# Altium integrated library Altium_Resistor.IntLib: 504 symbols (part 5 of 10)
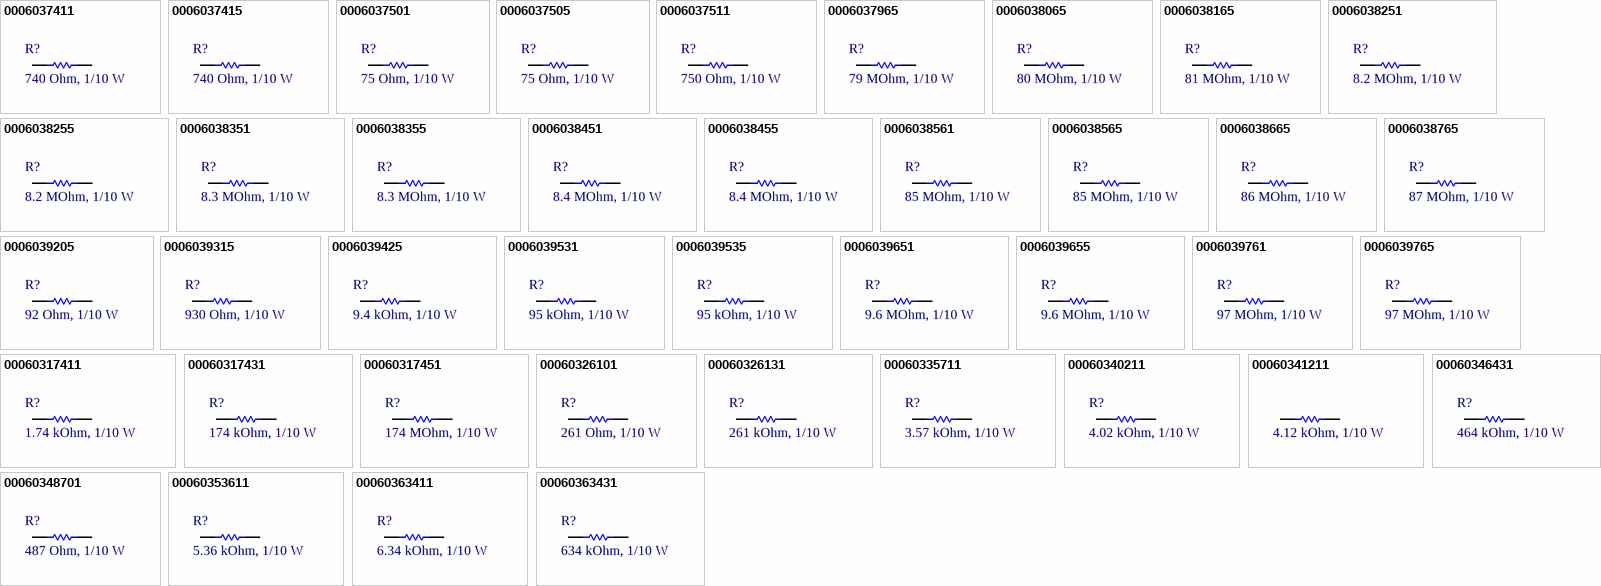
[diagram p19: symbols 0006037411 to 00060363431]

## 0006038165
designator R?, comment 81 MOhm, 1/10 W
RES, size 0603, 81 MOhm, 1/10 W, 5%; Manufacturer: OEM; Rated Power: 1/10 W; Resistance: 81 MOhm; Tolerance: +/-5%; Supplier 1 URL: N/A; Supplier 3 URL: N/A; Value: 81 MOhm, 1/10 W; Supplier 2 URL: N/A; Packaging: Tape and Reel; Supplier 1: Mouser; Supplier 1 Part Number: N/A; Supplier 2: Digi-Key; Supplier 2 Part Number: N/A; Supplier 3: thegioiic; Supplier 3 Part Number: N/A; Manufacturer Part Number: OEM; ComponentLink1Description: Datasheet; ComponentLink1URL: N/A; Mount: SMD/SMT; Operating Temperature Max: + 85 C; Operating Temperature Min: - 40 C; Package / Case: 0603; LCSC Part #: N/A
footprint RES_0603 (Chip Resistor, 2-Leads, Body 1.55x0.85mm, IPC Medium Density)
pins: 1, 2

## 0006038251
designator R?, comment 8.2 MOhm, 1/10 W
RES, size 0603, 8.2  MOhm, 1/10 W, 1%; Manufacturer: OEM; Rated Power: 1/10 W; Tolerance: +/-1%; Resistance: 8.2  MOhm; Supplier 1 URL: https://www.mouser.vn/ProductDetail/KOA-Speer/HV731JTTD8204F?qs=ZqVPfSd1khqN0teaqWW7DA%3D%3D; Supplier 3 URL: N/A; Value: 8.2 MOhm, 1/10 W; Supplier 2 URL: https://www.digikey.com/en/products/detail/yageo/RC0603FR-078M2L/5918418; Packaging: Tape and Reel; Supplier 1: Mouser; Supplier 1 Part Number: 660-HV731JTTD8204F; Supplier 2: Digi-Key; Supplier 2 Part Number: 13-RC0603FR-078M2LTR-ND; Supplier 3: thegioiic; Supplier 3 Part Number: N/A; Manufacturer Part Number: OEM; ComponentLink1Description: Datasheet; ComponentLink1URL: N/A; Mount: SMD/SMT; Operating Temperature Max: + 85 C; Operating Temperature Min: - 40 C; Package / Case: 0603; LCSC Part #: N/A
footprint RES_0603 (Chip Resistor, 2-Leads, Body 1.55x0.85mm, IPC Medium Density)
pins: 1, 2

## 0006038255
designator R?, comment 8.2 MOhm, 1/10 W
RES, size 0603, 8.2 MOhm, 1/10 W, 5%; Manufacturer: ROHM Semiconductor; Manufacturer Part Number: ESR03EZPJ825; Rated Power: 1/10 W; Tolerance: +/-5%; Resistance: 8.2 MOhm; Supplier 1 URL: https://www.mouser.vn/ProductDetail/ROHM-Semiconductor/ESR03EZPJ825?qs=493kPxzlxfIkNxBzvs2Ymg%3D%3D; Supplier 3 URL: N/A; Value: 8.2 MOhm, 1/10 W; Supplier 2 URL: https://www.digikey.com/en/products/detail/rohm-semiconductor/ESR03EZPJ825/4051298?s=N4IgTCBcDaIOwFYEFoCiBlASgBgMyoC0AFAKQA4wEQBdAXyA; Packaging: Tape and Reel; Supplier 1: Mouser; Supplier 1 Part Number: 755-ESR03EZPJ825; Supplier 2: Digi-Key; Supplier 2 Part Number: RHM8.2MDTR-ND - Tape & Reel (TR); Supplier 3: thegioiic; Supplier 3 Part Number: N/A; ComponentLink1Description: Datasheet; ComponentLink1URL: https://www.mouser.vn/datasheet/2/348/ROHM_S_A0011075102_1-2563252.pdf; Mount: SMD/SMT; Operating Temperature Max: + 85 C; Operating Temperature Min: - 40 C; Package / Case: 0603; LCSC Part #: N/A
footprint RES_0603 (Chip Resistor, 2-Leads, Body 1.55x0.85mm, IPC Medium Density)
pins: 1, 2

## 0006038351
designator R?, comment 8.3 MOhm, 1/10 W
RES, size 0603, 8.3  MOhm, 1/10 W, 1%; Manufacturer: OEM; Rated Power: 1/10 W; Tolerance: +/-1%; Resistance: 8.3  MOhm; Supplier 1 URL: N/A; Supplier 3 URL: N/A; Value: 8.3 MOhm, 1/10 W; Supplier 2 URL: N/A; Packaging: Tape and Reel; Supplier 1: Mouser; Supplier 1 Part Number: N/A; Supplier 2: Digi-Key; Supplier 2 Part Number: N/A; Supplier 3: thegioiic; Supplier 3 Part Number: N/A; Manufacturer Part Number: OEM; ComponentLink1Description: Datasheet; ComponentLink1URL: N/A; Mount: SMD/SMT; Operating Temperature Max: + 85 C; Operating Temperature Min: - 40 C; Package / Case: 0603; LCSC Part #: N/A
footprint RES_0603 (Chip Resistor, 2-Leads, Body 1.55x0.85mm, IPC Medium Density)
pins: 1, 2

## 0006038355
designator R?, comment 8.3 MOhm, 1/10 W
RES, size 0603, 8.3 MOhm, 1/10 W, 5%; Manufacturer: OEM; Rated Power: 1/10 W; Tolerance: +/-5%; Resistance: 8.3 MOhm; Supplier 1 URL: N/A; Supplier 3 URL: N/A; Value: 8.3 MOhm, 1/10 W; Supplier 2 URL: N/A; Packaging: Tape and Reel; Supplier 1: Mouser; Supplier 1 Part Number: N/A; Supplier 2: Digi-Key; Supplier 2 Part Number: N/A; Supplier 3: thegioiic; Supplier 3 Part Number: N/A; Manufacturer Part Number: OEM; ComponentLink1Description: Datasheet; ComponentLink1URL: N/A; Mount: SMD/SMT; Operating Temperature Max: + 85 C; Operating Temperature Min: - 40 C; Package / Case: 0603; LCSC Part #: N/A
footprint RES_0603 (Chip Resistor, 2-Leads, Body 1.55x0.85mm, IPC Medium Density)
pins: 1, 2

## 0006038451
designator R?, comment 8.4 MOhm, 1/10 W
RES, size 0603, 8.4  MOhm, 1/10 W, 1%; Manufacturer: OEM; Rated Power: 1/10 W; Tolerance: +/-1%; Resistance: 8.4  MOhm; Supplier 1 URL: N/A; Supplier 3 URL: N/A; Value: 8.4 MOhm, 1/10 W; Supplier 2 URL: N/A; Packaging: Tape and Reel; Supplier 1: Mouser; Supplier 1 Part Number: N/A; Supplier 2: Digi-Key; Supplier 2 Part Number: N/A; Supplier 3: thegioiic; Supplier 3 Part Number: N/A; Manufacturer Part Number: OEM; ComponentLink1Description: Datasheet; ComponentLink1URL: N/A; Mount: SMD/SMT; Operating Temperature Max: + 85 C; Operating Temperature Min: - 40 C; Package / Case: 0603; LCSC Part #: N/A
footprint RES_0603 (Chip Resistor, 2-Leads, Body 1.55x0.85mm, IPC Medium Density)
pins: 1, 2

## 0006038455
designator R?, comment 8.4 MOhm, 1/10 W
RES, size 0603, 8.4 MOhm, 1/10 W, 5%; Manufacturer: OEM; Rated Power: 1/10 W; Tolerance: +/-5%; Resistance: 8.4 MOhm; Supplier 1 URL: N/A; Supplier 3 URL: N/A; Value: 8.4 MOhm, 1/10 W; Supplier 2 URL: N/A; Packaging: Tape and Reel; Supplier 1: Mouser; Supplier 1 Part Number: N/A; Supplier 2: Digi-Key; Supplier 2 Part Number: N/A; Supplier 3: thegioiic; Supplier 3 Part Number: N/A; Manufacturer Part Number: OEM; ComponentLink1Description: Datasheet; ComponentLink1URL: N/A; Mount: SMD/SMT; Operating Temperature Max: + 85 C; Operating Temperature Min: - 40 C; Package / Case: 0603; LCSC Part #: N/A
footprint RES_0603 (Chip Resistor, 2-Leads, Body 1.55x0.85mm, IPC Medium Density)
pins: 1, 2

## 0006038561
designator R?, comment 85 MOhm, 1/10 W
RES, size 0603, 85  MOhm, 1/10 W, 1%; Manufacturer: OEM; Rated Power: 1/10 W; Resistance: 85  MOhm; Tolerance: +/-1%; Supplier 1 URL: N/A; Supplier 3 URL: N/A; Value: 85 MOhm, 1/10 W; Supplier 2 URL: N/A; Packaging: Tape and Reel; Supplier 1: Mouser; Supplier 1 Part Number: N/A; Supplier 2: Digi-Key; Supplier 2 Part Number: N/A; Supplier 3: thegioiic; Supplier 3 Part Number: N/A; Manufacturer Part Number: OEM; ComponentLink1Description: Datasheet; ComponentLink1URL: N/A; Mount: SMD/SMT; Operating Temperature Max: + 85 C; Operating Temperature Min: - 40 C; Package / Case: 0603; LCSC Part #: N/A
footprint RES_0603 (Chip Resistor, 2-Leads, Body 1.55x0.85mm, IPC Medium Density)
pins: 1, 2

## 0006038565
designator R?, comment 85 MOhm, 1/10 W
RES, size 0603, 85 MOhm, 1/10 W, 5%; Manufacturer: OEM; Rated Power: 1/10 W; Resistance: 85 MOhm; Tolerance: +/-5%; Supplier 1 URL: N/A; Supplier 3 URL: N/A; Value: 85 MOhm, 1/10 W; Supplier 2 URL: N/A; Packaging: Tape and Reel; Supplier 1: Mouser; Supplier 1 Part Number: N/A; Supplier 2: Digi-Key; Supplier 2 Part Number: N/A; Supplier 3: thegioiic; Supplier 3 Part Number: N/A; Manufacturer Part Number: OEM; ComponentLink1Description: Datasheet; ComponentLink1URL: N/A; Mount: SMD/SMT; Operating Temperature Max: + 85 C; Operating Temperature Min: - 40 C; Package / Case: 0603; LCSC Part #: N/A
footprint RES_0603 (Chip Resistor, 2-Leads, Body 1.55x0.85mm, IPC Medium Density)
pins: 1, 2

## 0006038665
designator R?, comment 86 MOhm, 1/10 W
RES, size 0603, 86 MOhm, 1/10 W, 5%; Manufacturer: OEM; Rated Power: 1/10 W; Resistance: 86 MOhm; Tolerance: +/-5%; Supplier 1 URL: N/A; Supplier 3 URL: N/A; Value: 86 MOhm, 1/10 W; Supplier 2 URL: N/A; Packaging: Tape and Reel; Supplier 1: Mouser; Supplier 1 Part Number: N/A; Supplier 2: Digi-Key; Supplier 2 Part Number: N/A; Supplier 3: thegioiic; Supplier 3 Part Number: N/A; Manufacturer Part Number: OEM; ComponentLink1Description: Datasheet; ComponentLink1URL: N/A; Mount: SMD/SMT; Operating Temperature Max: + 85 C; Operating Temperature Min: - 40 C; Package / Case: 0603; LCSC Part #: N/A
footprint RES_0603 (Chip Resistor, 2-Leads, Body 1.55x0.85mm, IPC Medium Density)
pins: 1, 2

## 0006038765
designator R?, comment 87 MOhm, 1/10 W
RES, size 0603, 87 MOhm, 1/10 W, 5%; Manufacturer: OEM; Rated Power: 1/10 W; Resistance: 87 MOhm; Tolerance: +/-5%; Supplier 1 URL: N/A; Supplier 3 URL: N/A; Value: 87 MOhm, 1/10 W; Supplier 2 URL: N/A; Packaging: Tape and Reel; Supplier 1: Mouser; Supplier 1 Part Number: N/A; Supplier 2: Digi-Key; Supplier 2 Part Number: N/A; Supplier 3: thegioiic; Supplier 3 Part Number: N/A; Manufacturer Part Number: OEM; ComponentLink1Description: Datasheet; ComponentLink1URL: N/A; Mount: SMD/SMT; Operating Temperature Max: + 85 C; Operating Temperature Min: - 40 C; Package / Case: 0603; LCSC Part #: N/A
footprint RES_0603 (Chip Resistor, 2-Leads, Body 1.55x0.85mm, IPC Medium Density)
pins: 1, 2

## 0006039205
designator R?, comment 92 Ohm, 1/10 W
RES, size 0603, 92 Ohm, 1/10 W, 5%; Manufacturer: OEM; Rated Power: 1/10 W; Resistance: 92 Ohm; Tolerance: +/-5%; Supplier 1 URL: N/A; Supplier 3 URL: N/A; Value: 92 Ohm, 1/10 W; Supplier 2 URL: N/A; Packaging: Tape and Reel; Supplier 1: Mouser; Supplier 1 Part Number: N/A; Supplier 2: Digi-Key; Supplier 2 Part Number: N/A; Supplier 3: thegioiic; Supplier 3 Part Number: N/A; Manufacturer Part Number: OEM; ComponentLink1Description: Datasheet; ComponentLink1URL: N/A; Mount: SMD/SMT; Operating Temperature Max: + 85 C; Operating Temperature Min: - 40 C; Package / Case: 0603; LCSC Part #: N/A
footprint RES_0603 (Chip Resistor, 2-Leads, Body 1.55x0.85mm, IPC Medium Density)
pins: 1, 2

## 0006039315
designator R?, comment 930 Ohm, 1/10 W
RES, size 0603, 930 Ohm, 1/10 W, 5%; Manufacturer: OEM; Rated Power: 1/10 W; Resistance: 930 Ohm; Tolerance: +/-5%; Supplier 1 URL: N/A; Supplier 3 URL: N/A; Value: 930 Ohm, 1/10 W; Supplier 2 URL: N/A; Packaging: Tape and Reel; Supplier 1: Mouser; Supplier 1 Part Number: N/A; Supplier 2: Digi-Key; Supplier 2 Part Number: N/A; Supplier 3: thegioiic; Supplier 3 Part Number: N/A; Manufacturer Part Number: OEM; ComponentLink1Description: Datasheet; ComponentLink1URL: N/A; Mount: SMD/SMT; Operating Temperature Max: + 85 C; Operating Temperature Min: - 40 C; Package / Case: 0603; LCSC Part #: N/A
footprint RES_0603 (Chip Resistor, 2-Leads, Body 1.55x0.85mm, IPC Medium Density)
pins: 1, 2

## 0006039425
designator R?, comment 9.4 kOhm, 1/10 W
RES, size 0603, 9.4 kOhm, 1/10 W, 5%; Manufacturer: OEM; Rated Power: 1/10 W; Tolerance: +/-5%; Resistance: 9.4 kOhm; Supplier 1 URL: N/A; Supplier 3 URL: N/A; Value: 9.4 kOhm, 1/10 W; Supplier 2 URL: N/A; Packaging: Tape and Reel; Supplier 1: Mouser; Supplier 1 Part Number: N/A; Supplier 2: Digi-Key; Supplier 2 Part Number: N/A; Supplier 3: thegioiic; Supplier 3 Part Number: N/A; Manufacturer Part Number: OEM; ComponentLink1Description: Datasheet; ComponentLink1URL: N/A; Mount: SMD/SMT; Operating Temperature Max: + 85 C; Operating Temperature Min: - 40 C; Package / Case: 0603; LCSC Part #: N/A
footprint RES_0603 (Chip Resistor, 2-Leads, Body 1.55x0.85mm, IPC Medium Density)
pins: 1, 2

## 0006039531
designator R?, comment 95 kOhm, 1/10 W
RES, size 0603, 95  kOhm, 1/10 W, 1%; Manufacturer: OEM; Rated Power: 1/10 W; Resistance: 95  kOhm; Tolerance: +/-1%; Supplier 1 URL: N/A; Supplier 3 URL: N/A; Value: 95 kOhm, 1/10 W; Supplier 2 URL: N/A; Packaging: Tape and Reel; Supplier 1: Mouser; Supplier 1 Part Number: N/A; Supplier 2: Digi-Key; Supplier 2 Part Number: N/A; Supplier 3: thegioiic; Supplier 3 Part Number: N/A; Manufacturer Part Number: OEM; ComponentLink1Description: Datasheet; ComponentLink1URL: N/A; Mount: SMD/SMT; Operating Temperature Max: + 85 C; Operating Temperature Min: - 40 C; Package / Case: 0603; LCSC Part #: N/A
footprint RES_0603 (Chip Resistor, 2-Leads, Body 1.55x0.85mm, IPC Medium Density)
pins: 1, 2

## 0006039535
designator R?, comment 95 kOhm, 1/10 W
RES, size 0603, 95 kOhm, 1/10 W, 5%; Manufacturer: OEM; Rated Power: 1/10 W; Resistance: 95 kOhm; Tolerance: +/-5%; Supplier 1 URL: N/A; Supplier 3 URL: N/A; Value: 95 kOhm, 1/10 W; Supplier 2 URL: N/A; Packaging: Tape and Reel; Supplier 1: Mouser; Supplier 1 Part Number: N/A; Supplier 2: Digi-Key; Supplier 2 Part Number: N/A; Supplier 3: thegioiic; Supplier 3 Part Number: N/A; Manufacturer Part Number: OEM; ComponentLink1Description: Datasheet; ComponentLink1URL: N/A; Mount: SMD/SMT; Operating Temperature Max: + 85 C; Operating Temperature Min: - 40 C; Package / Case: 0603; LCSC Part #: N/A
footprint RES_0603 (Chip Resistor, 2-Leads, Body 1.55x0.85mm, IPC Medium Density)
pins: 1, 2

## 0006039651
designator R?, comment 9.6 MOhm, 1/10 W
RES, size 0603, 9.6  MOhm, 1/10 W, 1%; Manufacturer: OEM; Rated Power: 1/10 W; Tolerance: +/-1%; Resistance: 9.6  MOhm; Supplier 1 URL: N/A; Supplier 3 URL: N/A; Value: 9.6 MOhm, 1/10 W; Supplier 2 URL: N/A; Packaging: Tape and Reel; Supplier 1: Mouser; Supplier 1 Part Number: N/A; Supplier 2: Digi-Key; Supplier 2 Part Number: N/A; Supplier 3: thegioiic; Supplier 3 Part Number: N/A; Manufacturer Part Number: OEM; ComponentLink1Description: Datasheet; ComponentLink1URL: N/A; Mount: SMD/SMT; Operating Temperature Max: + 85 C; Operating Temperature Min: - 40 C; Package / Case: 0603; LCSC Part #: N/A
footprint RES_0603 (Chip Resistor, 2-Leads, Body 1.55x0.85mm, IPC Medium Density)
pins: 1, 2

## 0006039655
designator R?, comment 9.6 MOhm, 1/10 W
RES, size 0603, 9.6 MOhm, 1/10 W, 5%; Manufacturer: OEM; Rated Power: 1/10 W; Tolerance: +/-5%; Resistance: 9.6 MOhm; Supplier 1 URL: N/A; Supplier 3 URL: N/A; Value: 9.6 MOhm, 1/10 W; Supplier 2 URL: N/A; Packaging: Tape and Reel; Supplier 1: Mouser; Supplier 1 Part Number: N/A; Supplier 2: Digi-Key; Supplier 2 Part Number: N/A; Supplier 3: thegioiic; Supplier 3 Part Number: N/A; Manufacturer Part Number: OEM; ComponentLink1Description: Datasheet; ComponentLink1URL: N/A; Mount: SMD/SMT; Operating Temperature Max: + 85 C; Operating Temperature Min: - 40 C; Package / Case: 0603; LCSC Part #: N/A
footprint RES_0603 (Chip Resistor, 2-Leads, Body 1.55x0.85mm, IPC Medium Density)
pins: 1, 2

## 0006039761
designator R?, comment 97 MOhm, 1/10 W
RES, size 0603, 97  MOhm, 1/10 W, 1%; Manufacturer: OEM; Rated Power: 1/10 W; Resistance: 97  MOhm; Tolerance: +/-1%; Supplier 1 URL: N/A; Supplier 3 URL: N/A; Value: 97 MOhm, 1/10 W; Supplier 2 URL: N/A; Packaging: Tape and Reel; Supplier 1: Mouser; Supplier 1 Part Number: N/A; Supplier 2: Digi-Key; Supplier 2 Part Number: N/A; Supplier 3: thegioiic; Supplier 3 Part Number: N/A; Manufacturer Part Number: OEM; ComponentLink1Description: Datasheet; ComponentLink1URL: N/A; Mount: SMD/SMT; Operating Temperature Max: + 85 C; Operating Temperature Min: - 40 C; Package / Case: 0603; LCSC Part #: N/A
footprint RES_0603 (Chip Resistor, 2-Leads, Body 1.55x0.85mm, IPC Medium Density)
pins: 1, 2

## 0006039765
designator R?, comment 97 MOhm, 1/10 W
RES, size 0603, 97 MOhm, 1/10 W, 5%; Manufacturer: OEM; Rated Power: 1/10 W; Resistance: 97 MOhm; Tolerance: +/-5%; Supplier 1 URL: N/A; Supplier 3 URL: N/A; Value: 97 MOhm, 1/10 W; Supplier 2 URL: N/A; Packaging: Tape and Reel; Supplier 1: Mouser; Supplier 1 Part Number: N/A; Supplier 2: Digi-Key; Supplier 2 Part Number: N/A; Supplier 3: thegioiic; Supplier 3 Part Number: N/A; Manufacturer Part Number: OEM; ComponentLink1Description: Datasheet; ComponentLink1URL: N/A; Mount: SMD/SMT; Operating Temperature Max: + 85 C; Operating Temperature Min: - 40 C; Package / Case: 0603; LCSC Part #: N/A
footprint RES_0603 (Chip Resistor, 2-Leads, Body 1.55x0.85mm, IPC Medium Density)
pins: 1, 2

## 00060317411
designator R?, comment 1.74 kOhm, 1/10 W
RES, size 0603, 1.74  kOhm, 1/10 W, 1%; Manufacturer: OEM; Rated Power: 1/10 W; Tolerance: +/-1%; Resistance: 1.74  kOhm; Supplier 1 URL: https://www.mouser.vn/ProductDetail/Bourns/CR0603-FX-1741ELF?qs=zx2075yZkZJRxafDX05PxQ%3D%3D; Supplier 3 URL: N/A; Value: 1.74 kOhm, 1/10 W; Supplier 2 URL: https://www.digikey.com/en/products/detail/yageo/RC0603FR-071K74L/726872; Packaging: Tape and Reel; Supplier 1: Mouser; Supplier 1 Part Number: 652-CR0603FX-1741ELF; Supplier 2: Digi-Key; Supplier 2 Part Number: 311-1.74KHRTR-ND; Supplier 3: thegioiic; Supplier 3 Part Number: N/A; Manufacturer Part Number: OEM; ComponentLink1Description: Datasheet; ComponentLink1URL: N/A; Mount: SMD/SMT; Operating Temperature Max: + 85 C; Operating Temperature Min: - 40 C; Package / Case: 0603; LCSC Part #: N/A
footprint RES_0603 (Chip Resistor, 2-Leads, Body 1.55x0.85mm, IPC Medium Density)
pins: 1, 2

## 00060317431
designator R?, comment 174 kOhm, 1/10 W
RES, size 0603, 174  kOhm, 1/10 W, 1%; Manufacturer: OEM; Rated Power: 1/10 W; Tolerance: +/-1%; Resistance: 174  kOhm; Supplier 1 URL: https://www.mouser.vn/ProductDetail/Bourns/CR0603-FX-1743ELF?qs=zx2075yZkZJGZPfH16YNVA%3D%3D; Supplier 3 URL: N/A; Value: 174 kOhm, 1/10 W; Supplier 2 URL: https://www.digikey.com/en/products/detail/yageo/RC0603FR-07174KL/726985; Packaging: Tape and Reel; Supplier 1: Mouser; Supplier 1 Part Number: 652-CR0603FX-1743ELF; Supplier 2: Digi-Key; Supplier 2 Part Number: 311-174KHRTR-ND; Supplier 3: thegioiic; Supplier 3 Part Number: N/A; Manufacturer Part Number: OEM; ComponentLink1Description: Datasheet; ComponentLink1URL: N/A; Mount: SMD/SMT; Operating Temperature Max: + 85 C; Operating Temperature Min: - 40 C; Package / Case: 0603; LCSC Part #: N/A
footprint RES_0603 (Chip Resistor, 2-Leads, Body 1.55x0.85mm, IPC Medium Density)
pins: 1, 2

## 00060317451
designator R?, comment 174 MOhm, 1/10 W
RES, size 0603, 174  MOhm, 1/10 W, 1%; Manufacturer: OEM; Rated Power: 1/10 W; Tolerance: +/-1%; Resistance: 174  MOhm; Supplier 1 URL: https://www.mouser.vn/ProductDetail/Royalohm/0603WAF1745T5E?qs=e8oIoAS2J1TZruGg9o9nsw%3D%3D; Supplier 3 URL: N/A; Value: 174 MOhm, 1/10 W; Supplier 2 URL: N/A; Packaging: Tape and Reel; Supplier 1: Mouser; Supplier 1 Part Number: 303-0603WAF1745T5E; Supplier 2: Digi-Key; Supplier 2 Part Number: N/A; Supplier 3: thegioiic; Supplier 3 Part Number: N/A; Manufacturer Part Number: OEM; ComponentLink1Description: Datasheet; ComponentLink1URL: N/A; Mount: SMD/SMT; Operating Temperature Max: + 85 C; Operating Temperature Min: - 40 C; Package / Case: 0603; LCSC Part #: N/A
footprint RES_0603 (Chip Resistor, 2-Leads, Body 1.55x0.85mm, IPC Medium Density)
pins: 1, 2

## 00060326101
designator R?, comment 261 Ohm, 1/10 W
RES, size 0603, 261 Ohm, 1/10 W, 1%; Manufacturer: OEM; Rated Power: 1/10 W; Resistance: 261 Ohm; Tolerance: +/-1%; Supplier 1 URL: https://www.mouser.vn/ProductDetail/Bourns/CR0603-FX-2610ELF?qs=I4suiNu8FYAPozqcSssc3g%3D%3D; Supplier 3 URL: N/A; Value: 261 Ohm, 1/10 W; Supplier 2 URL: https://www.digikey.com/en/products/detail/yageo/RC0603FR-07261RL/727095; Packaging: Tape and Reel; Supplier 1: Mouser; Supplier 1 Part Number: 652-CR0603FX-2610ELF; Supplier 2: Digi-Key; Supplier 2 Part Number: 311-261HRTR-ND; Supplier 3: thegioiic; Supplier 3 Part Number: N/A; Manufacturer Part Number: OEM; ComponentLink1Description: Datasheet; ComponentLink1URL: N/A; Mount: SMD/SMT; Operating Temperature Max: + 85 C; Operating Temperature Min: - 40 C; Package / Case: 0603; LCSC Part #: N/A
footprint RES_0603 (Chip Resistor, 2-Leads, Body 1.55x0.85mm, IPC Medium Density)
pins: 1, 2

## 00060326131
designator R?, comment 261 kOhm, 1/10 W
RES, size 0603, 261  kOhm, 1/10 W, 1%; Manufacturer: OEM; Rated Power: 1/10 W; Tolerance: +/-1%; Resistance: 261  kOhm; Supplier 1 URL: https://www.mouser.vn/ProductDetail/Vishay-Dale/CRCW0603261KFKEA?qs=ZY%2FA15UmqnC8j%252BzPQatghA%3D%3D; Supplier 3 URL: N/A; Value: 261 kOhm, 1/10 W; Supplier 2 URL: https://www.digikey.com/en/products/detail/yageo/RC0603FR-07261KL/727096; Packaging: Tape and Reel; Supplier 1: Mouser; Supplier 1 Part Number: 71-CRCW0603-261K-E3; Supplier 2: Digi-Key; Supplier 2 Part Number: 311-261KHRTR-ND; Supplier 3: thegioiic; Supplier 3 Part Number: N/A; Manufacturer Part Number: OEM; ComponentLink1Description: Datasheet; ComponentLink1URL: N/A; Mount: SMD/SMT; Operating Temperature Max: + 85 C; Operating Temperature Min: - 40 C; Package / Case: 0603; LCSC Part #: N/A
footprint RES_0603 (Chip Resistor, 2-Leads, Body 1.55x0.85mm, IPC Medium Density)
pins: 1, 2

## 00060335711
designator R?, comment 3.57 kOhm, 1/10 W
RES, size 0603, 3.57  kOhm, 1/10 W, 1%; Manufacturer: OEM; Rated Power: 1/10 W; Tolerance: +/-1%; Resistance: 3.57  kOhm; Supplier 1 URL: https://www.mouser.vn/ProductDetail/ROHM-Semiconductor/SDR03EZPF3571?qs=MyNHzdoqoQLQWlSf8qqG2w%3D%3D; Supplier 3 URL: N/A; Value: 3.57 kOhm, 1/10 W; Supplier 2 URL: https://www.digikey.com/en/products/detail/yageo/RC0603FR-073K57L/727131; Packaging: Tape and Reel; Supplier 1: Mouser; Supplier 1 Part Number: 755-SDR03EZPF3571; Supplier 2: Digi-Key; Supplier 2 Part Number: 311-3.57KHRTR-ND; Supplier 3: thegioiic; Supplier 3 Part Number: N/A; Manufacturer Part Number: OEM; ComponentLink1Description: Datasheet; ComponentLink1URL: N/A; Mount: SMD/SMT; Operating Temperature Max: + 85 C; Operating Temperature Min: - 40 C; Package / Case: 0603; LCSC Part #: N/A
footprint RES_0603 (Chip Resistor, 2-Leads, Body 1.55x0.85mm, IPC Medium Density)
pins: 1, 2

## 00060340211
designator R?, comment 4.02 kOhm, 1/10 W
RES, size 0603, 4.02  kOhm, 1/10 W, 1%; Manufacturer: OEM; Rated Power: 1/10 W; Tolerance: +/-1%; Resistance: 4.02  kOhm; Supplier 1 URL: https://www.mouser.vn/ProductDetail/Vishay-Dale/CRCW06034K02FKEA?qs=ePVmox3SMzYmoL%252BtsFsAuw%3D%3D; Supplier 3 URL: N/A; Value: 4.02 kOhm, 1/10 W; Supplier 2 URL: https://www.digikey.com/en/products/detail/yageo/RC0603FR-074K02L/727203; Packaging: Tape and Reel; Supplier 1: Mouser; Supplier 1 Part Number: 71-CRCW0603-4.02K-E3; Supplier 2: Digi-Key; Supplier 2 Part Number: 311-4.02KHRTR-ND; Supplier 3: thegioiic; Supplier 3 Part Number: N/A; Manufacturer Part Number: OEM; ComponentLink1Description: Datasheet; ComponentLink1URL: N/A; Mount: SMD/SMT; Operating Temperature Max: + 85 C; Operating Temperature Min: - 40 C; Package / Case: 0603; LCSC Part #: N/A
footprint RES_0603 (Chip Resistor, 2-Leads, Body 1.55x0.85mm, IPC Medium Density)
pins: 1, 2

## 00060341211
designator ?, comment 4.12 kOhm, 1/10 W
RES, size 0603, 4.12  kOhm, 1/10 W, 1%; Manufacturer: OEM; Rated Power: 1/10 W; Tolerance: +/-1%; Resistance: 4.12  kOhm; Supplier 1 URL: https://www.mouser.vn/ProductDetail/Vishay-Dale/CRCW06034K12FKEA?qs=7VR27ARAOdnkRSfILZFcCQ%3D%3D; Supplier 3 URL: N/A; Value: 4.12 kOhm, 1/10 W; Supplier 2 URL: https://www.digikey.com/en/products/detail/yageo/RC0603FR-074K02L/727203; Packaging: Tape and Reel; Supplier 1: Mouser; Supplier 1 Part Number: 71-CRCW0603-4.12K-E3; Supplier 2: Digi-Key; Supplier 2 Part Number: 311-4.02KHRTR-ND; Supplier 3: thegioiic; Supplier 3 Part Number: N/A; Manufacturer Part Number: OEM; ComponentLink1Description: Datasheet; ComponentLink1URL: N/A; Mount: SMD/SMT; Operating Temperature Max: + 85 C; Operating Temperature Min: - 40 C; Package / Case: 0603; LCSC Part #: N/A
footprint RES_0603 (Chip Resistor, 2-Leads, Body 1.55x0.85mm, IPC Medium Density)
pins: 1, 2

## 00060346431
designator R?, comment 464 kOhm, 1/10 W
RES, size 0603, 464  kOhm, 1/10 W, 1%; Manufacturer: OEM; Rated Power: 1/10 W; Tolerance: +/-1%; Resistance: 464  kOhm; Supplier 1 URL: https://www.mouser.vn/ProductDetail/Panasonic/ERJ-PA3F4643V?qs=BzJM0faLVqXNplNA4jO3ww%3D%3D; Supplier 3 URL: N/A; Value: 464 kOhm, 1/10 W; Supplier 2 URL: https://www.digikey.com/en/products/detail/panasonic-electronic-components/ERJ-PA3F4643V/5038117?s=N4IgTCBcDaIGxwOwFoCiAlAUsgCgQQGYAxAFjhIIDUQBdAXyA; Packaging: Tape and Reel; Supplier 1: Mouser; Supplier 1 Part Number: 667-ERJ-PA3F4643V; Supplier 2: Digi-Key; Supplier 2 Part Number: ERJ-PA3F4643V-ND - Tape & Reel (TR); Supplier 3: thegioiic; Supplier 3 Part Number: N/A; Manufacturer Part Number: OEM; ComponentLink1Description: Datasheet; ComponentLink1URL: https://www.mouser.vn/datasheet/2/315/AOA0000C331-1141874.pdf; Mount: SMD/SMT; Operating Temperature Max: + 85 C; Operating Temperature Min: - 40 C; Package / Case: 0603; LCSC Part #: N/A
footprint RES_0603 (Chip Resistor, 2-Leads, Body 1.55x0.85mm, IPC Medium Density)
pins: 1, 2

## 00060348701
designator R?, comment 487 Ohm, 1/10 W
RES, size 0603, 487 Ohm, 1/10 W, 1%; Manufacturer: OEM; Rated Power: 1/10 W; Resistance: 487 Ohm; Tolerance: +/-1%; Supplier 1 URL: https://www.mouser.vn/ProductDetail/Panasonic/ERJ-PA3F4870V?qs=BzJM0faLVqXoF%252BFTbHdjOQ%3D%3D; Supplier 3 URL: N/A; Value: 487 Ohm, 1/10 W; Supplier 2 URL: https://www.digikey.com/en/products/detail/panasonic-electronic-components/ERJ-PA3F4870V/5037849?s=N4IgTCBcDaIGxwOwFoCiAlAUsgCgQQGYAxAFgA5EAGANRAF0BfIA; Packaging: Tape and Reel; Supplier 1: Mouser; Supplier 1 Part Number: 667-ERJ-PA3F4870V; Supplier 2: Digi-Key; Supplier 2 Part Number: ERJ-PA3F4870V-ND - Tape & Reel (TR); Supplier 3: thegioiic; Supplier 3 Part Number: N/A; Manufacturer Part Number: OEM; ComponentLink1Description: Datasheet; ComponentLink1URL: https://www.mouser.vn/datasheet/2/315/AOA0000C331-1141874.pdf; Mount: SMD/SMT; Operating Temperature Max: + 85 C; Operating Temperature Min: - 40 C; Package / Case: 0603; LCSC Part #: N/A
footprint RES_0603 (Chip Resistor, 2-Leads, Body 1.55x0.85mm, IPC Medium Density)
pins: 1, 2

## 00060353611
designator R?, comment 5.36 kOhm, 1/10 W
RES, size 0603, 5.36  kOhm, 1/10 W, 1%; Manufacturer: OEM; Rated Power: 1/10 W; Tolerance: +/-1%; Resistance: 5.36  kOhm; Supplier 1 URL: https://www.mouser.vn/ProductDetail/Panasonic/ERJ-PA3F5361V?qs=BzJM0faLVqV9HycZG6PMVQ%3D%3D; Supplier 3 URL: N/A; Value: 5.36 kOhm, 1/10 W; Supplier 2 URL: https://www.digikey.com/en/products/detail/panasonic-electronic-components/ERJ-PA3F5361V/5037943?s=N4IgTCBcDaIGxwOwFoCiAlAUsgCgQQGYAxAVgLgEYA1EAXQF8g; Packaging: Tape and Reel; Supplier 1: Mouser; Supplier 1 Part Number: 667-ERJ-PA3F5361V; Supplier 2: Digi-Key; Supplier 2 Part Number: ERJ-PA3F5361V-ND - Tape & Reel (TR); Supplier 3: thegioiic; Supplier 3 Part Number: N/A; Manufacturer Part Number: OEM; ComponentLink1Description: Datasheet; ComponentLink1URL: https://www.mouser.vn/datasheet/2/315/AOA0000C331-1141874.pdf; Mount: SMD/SMT; Operating Temperature Max: + 85 C; Operating Temperature Min: - 40 C; Package / Case: 0603; LCSC Part #: N/A
footprint RES_0603 (Chip Resistor, 2-Leads, Body 1.55x0.85mm, IPC Medium Density)
pins: 1, 2

## 00060363411
designator R?, comment 6.34 kOhm, 1/10 W
RES, size 0603, 6.34  kOhm, 1/10 W, 1%; Manufacturer: OEM; Rated Power: 1/10 W; Tolerance: +/-1%; Resistance: 6.34  kOhm; Supplier 1 URL: https://www.mouser.vn/ProductDetail/Bourns/CR0805-FX-6341ELF?qs=LA9FZBosJlAK7SMOW8nAHg%3D%3D; Supplier 3 URL: N/A; Value: 6.34 kOhm, 1/10 W; Supplier 2 URL: https://www.digikey.com/en/products/detail/yageo/RC0603FR-076K34L/727320; Packaging: Tape and Reel; Supplier 1: Mouser; Supplier 1 Part Number: 652-CR0805FX-6341ELF; Supplier 2: Digi-Key; Supplier 2 Part Number: 311-6.34KHRTR-ND; Supplier 3: thegioiic; Supplier 3 Part Number: N/A; Manufacturer Part Number: OEM; ComponentLink1Description: Datasheet; ComponentLink1URL: N/A; Mount: SMD/SMT; Operating Temperature Max: + 85 C; Operating Temperature Min: - 40 C; Package / Case: 0603; LCSC Part #: N/A
footprint RES_0603 (Chip Resistor, 2-Leads, Body 1.55x0.85mm, IPC Medium Density)
pins: 1, 2

## 00060363431
designator R?, comment 634 kOhm, 1/10 W
RES, size 0603, 634  kOhm, 1/10 W, 1%; Manufacturer: OEM; Rated Power: 1/10 W; Tolerance: +/-1%; Resistance: 634  kOhm; Supplier 1 URL: https://www.mouser.vn/ProductDetail/Bourns/CR0805-FX-6343ELF?qs=LA9FZBosJlBAKVRC2OUkqw%3D%3D; Supplier 3 URL: N/A; Value: 634 kOhm, 1/10 W; Supplier 2 URL: https://www.digikey.com/en/products/detail/yageo/RC0603FR-07634KL/727342; Packaging: Tape and Reel; Supplier 1: Mouser; Supplier 1 Part Number: 652-CR0805FX-6343ELF; Supplier 2: Digi-Key; Supplier 2 Part Number: 311-634KHRTR-ND; Supplier 3: thegioiic; Supplier 3 Part Number: N/A; Manufacturer Part Number: OEM; ComponentLink1Description: Datasheet; ComponentLink1URL: N/A; Mount: SMD/SMT; Operating Temperature Max: + 85 C; Operating Temperature Min: - 40 C; Package / Case: 0603; LCSC Part #: N/A
footprint RES_0603 (Chip Resistor, 2-Leads, Body 1.55x0.85mm, IPC Medium Density)
pins: 1, 2

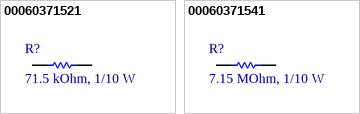
[diagram p6: symbols 00060371521 to 00060371541]

## 00060371521
designator R?, comment 71.5 kOhm, 1/10 W
RES, size 0603, 71.5  kOhm, 1/10 W, 1%; Manufacturer: OEM; Rated Power: 1/10 W; Tolerance: +/-1%; Resistance: 71.5  kOhm; Supplier 1 URL: N/A; Supplier 3 URL: N/A; Value: 71.5 kOhm, 1/10 W; Supplier 2 URL: https://www.digikey.com/en/products/detail/yageo/RC0603FR-0771K5L/727370; Packaging: Tape and Reel; Supplier 1: Mouser; Supplier 1 Part Number: N/A; Supplier 2: Digi-Key; Supplier 2 Part Number: 311-71.5KHRTR-ND; Supplier 3: thegioiic; Supplier 3 Part Number: N/A; Manufacturer Part Number: OEM; ComponentLink1Description: Datasheet; ComponentLink1URL: N/A; Mount: SMD/SMT; Operating Temperature Max: + 85 C; Operating Temperature Min: - 40 C; Package / Case: 0603; LCSC Part #: N/A
footprint RES_0603 (Chip Resistor, 2-Leads, Body 1.55x0.85mm, IPC Medium Density)
pins: 1, 2

## 00060371541
designator R?, comment 7.15 MOhm, 1/10 W
RES, size 0603, 7.15  MOhm, 1/10 W, 1%; Manufacturer: OEM; Rated Power: 1/10 W; Tolerance: +/-1%; Resistance: 7.15  MOhm; Supplier 1 URL: https://www.mouser.vn/ProductDetail/YAGEO/RC0201FR-077M15L?qs=lc2O%252BfHJPVagYgggyyCiyg%3D%3D; Supplier 3 URL: N/A; Value: 7.15 MOhm, 1/10 W; Supplier 2 URL: https://www.digikey.com/en/products/detail/vishay-dale/CRCW06037M15FKEA/1175108; Packaging: Tape and Reel; Supplier 1: Mouser; Supplier 1 Part Number: 603-RC0201FR-077M15L; Supplier 2: Digi-Key; Supplier 2 Part Number: 541-7.15MHTR-ND; Supplier 3: thegioiic; Supplier 3 Part Number: N/A; Manufacturer Part Number: OEM; ComponentLink1Description: Datasheet; ComponentLink1URL: N/A; Mount: SMD/SMT; Operating Temperature Max: + 85 C; Operating Temperature Min: - 40 C; Package / Case: 0603; LCSC Part #: N/A
footprint RES_0603 (Chip Resistor, 2-Leads, Body 1.55x0.85mm, IPC Medium Density)
pins: 1, 2


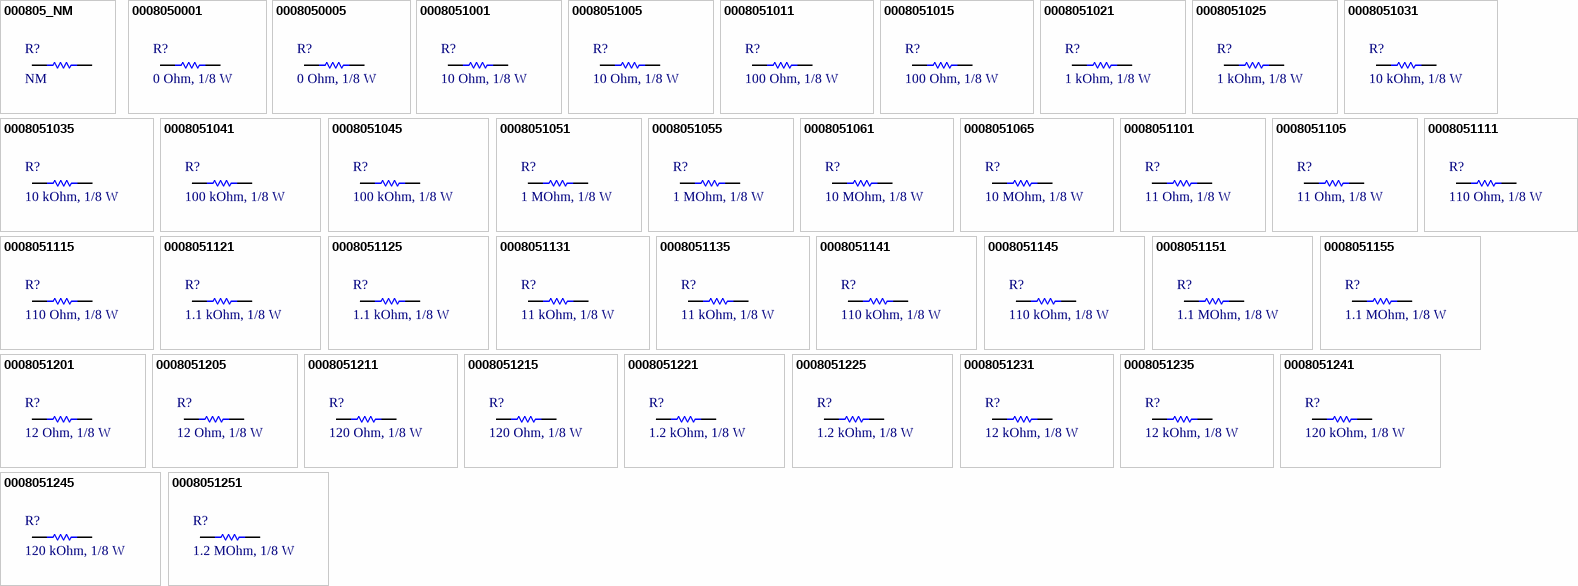
[diagram p7: symbols 000805_NM to 0008051251]

## 000805_NM
designator R?, comment NM
RES, size 0805, NM, N/A; Rated Power: 1/8 W; Resistance: N/A; Supplier 1 URL: N/A; Supplier 2 URL: N/A; Supplier 3 URL: N/A; Value: NM; Packaging: Tape and Reel; Supplier 1: Mouser; Supplier 1 Part Number: N/A; Supplier 2: Digi-Key; Supplier 2 Part Number: N/A; Supplier 3: thegioiic; Supplier 3 Part Number: OEM; Tolerance: N/A; Manufacturer: N/A; Manufacturer Part Number: N/A; ComponentLink1Description: Datasheet; ComponentLink1URL: N/A; Mount: SMD/SMT; Operating Temperature Max: + 85 C; Operating Temperature Min: - 40 C; Package / Case: 0805; LCSC Part #: N/A
footprint RES_0805 (Chip Resistor, 2-Leads, Body 2.05x1.25mm, IPC Medium Density)
pins: 1, 2

## 0008050001
designator R?, comment 0 Ohm, 1/8 W
RES, size 0805, 0 Ohm, 1/8 W, 1%; Manufacturer: YAGEO; Manufacturer Part Number: RC0805FR-070RL; Rated Power: 1/8 W; Resistance: 0 Ohm; Tolerance: +/-1%; Supplier 1 URL: https://www.mouser.com/ProductDetail/YAGEO/RC0805FR-070RL?qs=fRxXYNj8ftF6kXqh1XbZJQ%3D%3D; Supplier 2 URL: https://www.digikey.com/en/products/detail/yageo/rc0805fr-070rl/2827620; Supplier 3 URL: https://www.thegioiic.com/dien-tro-0-ohm-0805-1-; Value: 0 Ohm, 1/8 W; Packaging: Tape and Reel; Supplier 1: Mouser; Supplier 1 Part Number: 603-RC0805FR-070RL; Supplier 2: Digi-Key; Supplier 2 Part Number: 311-0.0CRTR-ND; Supplier 3: thegioiic; Supplier 3 Part Number: OEM; ComponentLink1Description: Datasheet; ComponentLink1URL: N/A; Mount: SMD/SMT; Operating Temperature Max: + 85 C; Operating Temperature Min: - 40 C; Package / Case: 0805; LCSC Part #: N/A
footprint RES_0805 (Chip Resistor, 2-Leads, Body 2.05x1.25mm, IPC Medium Density)
pins: 1, 2

## 0008050005
designator R?, comment 0 Ohm, 1/8 W
RES, size 0805, 0 Ohm, 1/8 W, 5%; Manufacturer: YAGEO; Manufacturer Part Number: RC0805JR-070RL; Rated Power: 1/8 W; Resistance: 0 Ohm; Tolerance: +/-5%; Supplier 1 URL: https://www.mouser.com/ProductDetail/YAGEO/RC0805JR-070RL?qs=3ldFlDWnkKyEhdaPjQHEFA%3D%3D; Supplier 2 URL: https://www.digikey.com/en/products/detail/yageo/rc0805jr-070rl/728216; Supplier 3 URL: https://www.thegioiic.com/dien-tro-0-ohm-0805-5-; Value: 0 Ohm, 1/8 W; Packaging: Tape and Reel; Supplier 1: Mouser; Supplier 1 Part Number: 603-RC0805JR-070RL; Supplier 2: Digi-Key; Supplier 2 Part Number: 311-0.0ARTR-ND; Supplier 3: thegioiic; Supplier 3 Part Number: OEM; ComponentLink1Description: Datasheet; ComponentLink1URL: https://www.mouser.com/datasheet/2/447/PYu_AR_51_RoHS_L_7-3003081.pdf; Mount: SMD/SMT; Operating Temperature Max: + 85 C; Operating Temperature Min: - 40 C; Package / Case: 0805; LCSC Part #: N/A
footprint RES_0805 (Chip Resistor, 2-Leads, Body 2.05x1.25mm, IPC Medium Density)
pins: 1, 2

## 0008051001
designator R?, comment 10 Ohm, 1/8 W
RES, size 0805, 10 Ohm, 1/8 W, 1%; Manufacturer: Vishay Dale Thin Film; Manufacturer Part Number: M55342H06B10D0RT5; Rated Power: 1/8 W; Resistance: 10 Ohm; Tolerance: +/-1%; Supplier 1 URL: https://www.mouser.vn/ProductDetail/Vishay-Dale/CRCW080510R0FKEAHP?qs=sGAEpiMZZMtlubZbdhIBIB2QTI7Ai3Wq221SUXRDybo%3D; Supplier 2 URL: https://www.digikey.com/en/products/detail/vishay-dale-thin-film/M55342H06B10D0RT5/3580812; Supplier 3 URL: https://www.thegioiic.com/dien-tro-10-ohm-0805-1-; Value: 10 Ohm, 1/8 W; Packaging: Tape and Reel; Supplier 1: Mouser; Supplier 1 Part Number: 71-CRCW080510R0FKEAH; Supplier 2: Digi-Key; Supplier 2 Part Number: 764-M55342H06B10D0RT5TR-ND; Supplier 3: thegioiic; Supplier 3 Part Number: OEM; ComponentLink1Description: Datasheet; ComponentLink1URL: https://www.vishay.com/docs/60018/eh.pdf; Mount: SMD/SMT; Operating Temperature Max: + 85 C; Operating Temperature Min: - 40 C; Package / Case: 0805; LCSC Part #: C96347
footprint RES_0805 (Chip Resistor, 2-Leads, Body 2.05x1.25mm, IPC Medium Density)
pins: 1, 2

## 0008051005
designator R?, comment 10 Ohm, 1/8 W
RES, size 0805, 10 Ohm, 1/8 W, 5%; Manufacturer: TE Connectivity Passive Product; Manufacturer Part Number: CRGCQ0805J10R; Rated Power: 1/8 W; Resistance: 10 Ohm; Tolerance: +/-5%; Supplier 1 URL: https://www.mouser.vn/ProductDetail/Vishay-Dale/CRCW080510R0JNEB?qs=LOX6nxTstiYdzgklIYN6GQ%3D%3D; Supplier 2 URL: https://www.digikey.com/en/products/detail/vishay-dale-thin-film/M55342H06B10D0RT5/3580812; Supplier 3 URL: https://www.thegioiic.com/dien-tro-10-ohm-0805-5-; Value: 10 Ohm, 1/8 W; Packaging: Tape and Reel; Supplier 1: Mouser; Supplier 1 Part Number: 71-CRCW080510R0JNEB; Supplier 2: Digi-Key; Supplier 2 Part Number: A130122TR-ND; Supplier 3: thegioiic; Supplier 3 Part Number: OEM; ComponentLink1Description: Datasheet; ComponentLink1URL: https://www.te.com/usa-en/product-2176342-7.datasheet.pdf; Mount: SMD/SMT; Operating Temperature Max: + 85 C; Operating Temperature Min: - 40 C; Package / Case: 0805; LCSC Part #: N/A
footprint RES_0805 (Chip Resistor, 2-Leads, Body 2.05x1.25mm, IPC Medium Density)
pins: 1, 2

## 0008051011
designator R?, comment 100 Ohm, 1/8 W
RES, size 0805, 100 Ohm, 1/8 W, 1%; Manufacturer: YAGEO; Manufacturer Part Number: AC0805FR-07100RL; Rated Power: 1/8 W; Resistance: 100 Ohm; Tolerance: +/-1%; Supplier 1 URL: https://www.mouser.com/ProductDetail/YAGEO/AC0805FR-07100RL?qs=yhV1fb9g%2FKZPmqCrZLI1lw%3D%3D; Supplier 2 URL: https://www.digikey.com/en/products/detail/yageo/ac0805fr-07100rl/5896521; Supplier 3 URL: https://www.thegioiic.com/dien-tro-100-ohm-0805-1-; Value: 100 Ohm, 1/8 W; Packaging: Tape and Reel; Supplier 1: Mouser; Supplier 1 Part Number: 603-AC0805FR-07100RL; Supplier 2: Digi-Key; Supplier 2 Part Number: YAG3689TR-ND; Supplier 3: thegioiic; Supplier 3 Part Number: OEM; ComponentLink1Description: Datasheet; ComponentLink1URL: https://www.yageo.com/upload/media/product/productsearch/datasheet/rchip/PYu-AC_51_RoHS_L_11.pdf; Mount: SMD/SMT; Operating Temperature Max: + 85 C; Operating Temperature Min: - 40 C; Package / Case: 0805; LCSC Part #: C138274
footprint RES_0805 (Chip Resistor, 2-Leads, Body 2.05x1.25mm, IPC Medium Density)
pins: 1, 2

## 0008051015
designator R?, comment 100 Ohm, 1/8 W
RES, size 0805, 100 Ohm, 1/8 W, 5%; Manufacturer: YAGEO; Manufacturer Part Number: RC0805JR-07100RL; Rated Power: 1/8 W; Resistance: 100 Ohm; Tolerance: +/-5%; Supplier 1 URL: https://www.mouser.com/ProductDetail/YAGEO/RC0805JR-07100RL?qs=KyGMWp10UktK72I3hB%252BlJQ%3D%3D; Supplier 2 URL: https://www.digikey.com/en/products/detail/yageo/rc0805jr-07100rl/728238; Supplier 3 URL: https://www.thegioiic.com/dien-tro-100-ohm-0805-5; Value: 100 Ohm, 1/8 W; Packaging: Tape and Reel; Supplier 1: Mouser; Supplier 1 Part Number: 603-RC0805JR-07100RL; Supplier 2: Digi-Key; Supplier 2 Part Number: 311-100ARTR-ND; Supplier 3: thegioiic; Supplier 3 Part Number: OEM; ComponentLink1Description: Datasheet; ComponentLink1URL: https://www.vishay.com/docs/28773/crcwce3.pdf; Mount: SMD/SMT; Operating Temperature Max: + 85 C; Operating Temperature Min: - 40 C; Package / Case: 0805; LCSC Part #: C106949
footprint RES_0805 (Chip Resistor, 2-Leads, Body 2.05x1.25mm, IPC Medium Density)
pins: 1, 2

## 0008051021
designator R?, comment 1 kOhm, 1/8 W
RES, size 0805, 1 kOhm, 1/8 W, 1%; Manufacturer: Vishay Dale; Manufacturer Part Number: M55342K06B1E00RS3; Rated Power: 1/8 W; Resistance: 1 kOhm; Tolerance: +/-1%; Supplier 1 URL: N/A; Supplier 2 URL: https://www.digikey.com/en/products/detail/vishay-dale/M55342K06B1E00RS3/2941798; Supplier 3 URL: https://www.thegioiic.com/dien-tro-1-kohm-0805-1; Value: 1 kOhm, 1/8 W; Packaging: Tape and Reel; Supplier 1: Mouser; Supplier 1 Part Number: N/A; Supplier 2: Digi-Key; Supplier 2 Part Number: 1135-1001-2-ND; Supplier 3: thegioiic; Supplier 3 Part Number: OEM; ComponentLink1Description: Datasheet; ComponentLink1URL: https://www.vishay.com/docs/31010/rcwpm.pdf; Mount: SMD/SMT; Operating Temperature Max: + 85 C; Operating Temperature Min: - 40 C; Package / Case: 0805; LCSC Part #: N/A
footprint RES_0805 (Chip Resistor, 2-Leads, Body 2.05x1.25mm, IPC Medium Density)
pins: 1, 2

## 0008051025
designator R?, comment 1 kOhm, 1/8 W
RES, size 0805, 1 kOhm, 1/8 W, 5%; Manufacturer: Vishay Dale; Manufacturer Part Number: CRCW08051K00JNEAC; Rated Power: 1/8 W; Resistance: 1 kOhm; Tolerance: +/-5%; Supplier 1 URL: https://www.mouser.vn/ProductDetail/Vishay-Dale/CRCW08051K00JNEC?qs=OW6ROCK%252BaiZqKFsNe9zjFw%3D%3D; Supplier 2 URL: https://www.digikey.com/en/products/detail/vishay-dale/CRCW08051K00JNEAC/7928584; Supplier 3 URL: https://www.thegioiic.com/dien-tro-1-kohm-0805-5-; Value: 1 kOhm, 1/8 W; Packaging: Tape and Reel; Supplier 1: Mouser; Supplier 1 Part Number: 71-CRCW08051K00JNEC; Supplier 2: Digi-Key; Supplier 2 Part Number: 541-4162-2-ND; Supplier 3: thegioiic; Supplier 3 Part Number: OEM; ComponentLink1Description: Datasheet; ComponentLink1URL: https://www.vishay.com/docs/28773/crcwce3.pdf; Mount: SMD/SMT; Operating Temperature Max: + 85 C; Operating Temperature Min: - 40 C; Package / Case: 0805; LCSC Part #: N/A
footprint RES_0805 (Chip Resistor, 2-Leads, Body 2.05x1.25mm, IPC Medium Density)
pins: 1, 2

## 0008051031
designator R?, comment 10 kOhm, 1/8 W
RES, size 0805, 10 kOhm, 1/8 W, 1%; Rated Power: 1/8 W; Resistance: 10 kOhm; Tolerance: +/-1%; Supplier 1 URL: N/A; Supplier 2 URL: N/A; Supplier 3 URL: https://www.thegioiic.com/dien-tro-1-kohm-0805-1; Value: 10 kOhm, 1/8 W; Packaging: Tape and Reel; Supplier 1: Mouser; Supplier 1 Part Number: N/A; Supplier 2: Digi-Key; Supplier 2 Part Number: N/A; Supplier 3: thegioiic; Supplier 3 Part Number: OEM; Manufacturer: N/A; Manufacturer Part Number: N/A; ComponentLink1Description: Datasheet; ComponentLink1URL: N/A; Mount: SMD/SMT; Operating Temperature Max: + 85 C; Operating Temperature Min: - 40 C; Package / Case: 0805; LCSC Part #: N/A
footprint RES_0805 (Chip Resistor, 2-Leads, Body 2.05x1.25mm, IPC Medium Density)
pins: 1, 2

## 0008051035
designator R?, comment 10 kOhm, 1/8 W
RES, size 0805, 10 kOhm, 1/8 W, 5%; Manufacturer: YAGEO; Manufacturer Part Number: RC0805JR-0710KL; Rated Power: 1/8 W; Resistance: 10 kOhm; Tolerance: +/-5%; Supplier 1 URL: https://www.mouser.com/ProductDetail/YAGEO/RC0805JR-0710KL?qs=ZFGQJeMQzF5q%2Fp77vM%2FrVQ%3D%3D; Supplier 2 URL: https://www.digikey.com/en/products/detail/yageo/RC0805JR-0710KL/728241?s=N4IgTCBcDaIEoGEAMAOJBWAUnAtEg7AIxIDSAMiALoC%2BQA; Supplier 3 URL: https://www.thegioiic.com/dien-tro-10-kohm-0805-5-; Value: 10 kOhm, 1/8 W; Packaging: Tape and Reel; Supplier 1: Mouser; Supplier 1 Part Number: 603-RC0805JR-0710KL; Supplier 2: Digi-Key; Supplier 2 Part Number: 311-10KARTR-ND; Supplier 3: thegioiic; Supplier 3 Part Number: OEM; ComponentLink1Description: Datasheet; ComponentLink1URL: https://www.mouser.com/datasheet/2/447/YAGEO_PYu_RC_Group_51_RoHS_L_12-3313492.pdf; Mount: SMD/SMT; Operating Temperature Max: + 85 C; Operating Temperature Min: - 40 C; Package / Case: 0805; LCSC Part #: C844195
footprint RES_0805 (Chip Resistor, 2-Leads, Body 2.05x1.25mm, IPC Medium Density)
pins: 1, 2

## 0008051041
designator R?, comment 100 kOhm, 1/8 W
RES, size 0805, 100 kOhm, 1/8 W, 1%; Manufacturer: YAGEO; Manufacturer Part Number: RC0805FR-07100KL; Rated Power: 1/8 W; Tolerance: +/-1%; Resistance: 100 kOhm; Supplier 1 URL: https://www.mouser.vn/ProductDetail/YAGEO/RC0805FR-07100KL?qs=8Y8p%252BasKcI7rEWn6FcVdAA%3D%3D; Supplier 2 URL: https://www.digikey.com/en/products/detail/yageo/rc0805fr-07100kl/727544; Supplier 3 URL: https://www.thegioiic.com/dien-tro-100-kohm-0805-1-; Value: 100 kOhm, 1/8 W; Packaging: Tape and Reel; Supplier 1: Mouser; Supplier 1 Part Number: 603-RC0805FR-07100KL; Supplier 2: Digi-Key; Supplier 2 Part Number: 311-100KCRTR-ND; Supplier 3: thegioiic; Supplier 3 Part Number: 100 KOhm 0805 1% (UNI-ROYALOHM); ComponentLink1Description: Datasheet; ComponentLink1URL: https://www.mouser.vn/datasheet/2/447/YAGEO_PYu_RC_Group_51_RoHS_L_12-3313492.pdf; Mount: SMD/SMT; Operating Temperature Max: + 85 C; Operating Temperature Min: - 40 C; Package / Case: 0805; LCSC Part #: C96346
footprint RES_0805 (Chip Resistor, 2-Leads, Body 2.05x1.25mm, IPC Medium Density)
pins: 1, 2

## 0008051045
designator R?, comment 100 kOhm, 1/8 W
RES, size 0805, 100 kOhm, 1/8 W, 5%; Manufacturer: YAGEO; Manufacturer Part Number: RC0805JR-07100KL; Rated Power: 1/8 W; Tolerance: +/-5%; Resistance: 100 kOhm; Supplier 1 URL: https://www.mouser.vn/ProductDetail/YAGEO/RC0805JR-07100KL?qs=KyGMWp10Ukv2oRRmJ87Y%252BQ%3D%3D; Supplier 2 URL: https://www.digikey.com/en/products/detail/yageo/rc0805jr-07100kl/728239; Supplier 3 URL: https://www.thegioiic.com/dien-tro-100-kohm-0805-5-; Value: 100 kOhm, 1/8 W; Packaging: Tape and Reel; Supplier 1: Mouser; Supplier 1 Part Number: 603-RC0805JR-07100KL; Supplier 2: Digi-Key; Supplier 2 Part Number: 311-100KARTR-ND; Supplier 3: thegioiic; Supplier 3 Part Number: 100 KOhm 0805 5% (UNI-ROYALOHM); ComponentLink1Description: Datasheet; ComponentLink1URL: https://www.mouser.vn/datasheet/2/447/YAGEO_PYu_RC_Group_51_RoHS_L_12-3313492.pdf; Mount: SMD/SMT; Operating Temperature Max: + 85 C; Operating Temperature Min: - 40 C; Package / Case: 0805; LCSC Part #: C100049
footprint RES_0805 (Chip Resistor, 2-Leads, Body 2.05x1.25mm, IPC Medium Density)
pins: 1, 2

## 0008051051
designator R?, comment 1 MOhm, 1/8 W
RES, size 0805, 1 MOhm, 1/8 W, 1%; Manufacturer: Vishay Dale; Manufacturer Part Number: M55342K06B1F00RS3; Rated Power: 1/8 W; Resistance: 1 MOhm; Tolerance: +/-1%; Supplier 1 URL: N/A; Supplier 2 URL: https://www.digikey.com/en/products/detail/vishay-dale/M55342K06B1F00RS3/2941807?s=N4IgjCBcoMxaBjKAzAhgGwM4FMA0IB7KAbXDBggF18AHAFyhAGU6AnASwDsBzEAX3xgAbPBBJIaLHkIkQMAJwwATPJDUQ9Riw49%2B%2BACwjoYlBhz4ikUgA4A7MrW0GkZmy68BIJQAZrAVlFxSXMZK3AAAgBZAHkACwBbTEcNZxAAVU52OmjkSOxUTABXVmx%2BPj4gA; Supplier 3 URL: https://www.thegioiic.com/dien-tro-1-mohm-0805-1; Value: 1 MOhm, 1/8 W; Packaging: Tape and Reel; Supplier 1: Mouser; Supplier 1 Part Number: N/A; Supplier 2: Digi-Key; Supplier 2 Part Number: 1135-1009-2-ND; Supplier 3: thegioiic; Supplier 3 Part Number: OEM; ComponentLink1Description: Datasheet; ComponentLink1URL: N/A; Mount: SMD/SMT; Operating Temperature Max: + 85 C; Operating Temperature Min: - 40 C; Package / Case: 0805; LCSC Part #: N/A
footprint RES_0805 (Chip Resistor, 2-Leads, Body 2.05x1.25mm, IPC Medium Density)
pins: 1, 2

## 0008051055
designator R?, comment 1 MOhm, 1/8 W
RES, size 0805, 1 MOhm, 1/8 W, 5%; Manufacturer: Vishay Dale; Manufacturer Part Number: CRCW08051M00JNEAC; Rated Power: 1/8 W; Resistance: 1 MOhm; Tolerance: +/-5%; Supplier 1 URL: https://www.mouser.vn/ProductDetail/Vishay-Dale/CRCW08051M00JNEA?qs=1CkV0QOCgMqcQMPfmcgFvg%3D%3D; Supplier 2 URL: https://www.digikey.com/en/products/detail/vishay-dale/CRCW08051M00JNEAC/7923683; Supplier 3 URL: https://www.thegioiic.com/dien-tro-1-mohm-0805-5; Value: 1 MOhm, 1/8 W; Packaging: Tape and Reel; Supplier 1: Mouser; Supplier 1 Part Number: 71-CRCW0805J-1M-E3; Supplier 2: Digi-Key; Supplier 2 Part Number: 541-CRCW08051M00JNEACTR-ND; Supplier 3: thegioiic; Supplier 3 Part Number: OEM; ComponentLink1Description: Datasheet; ComponentLink1URL: https://www.vishay.com/docs/28773/crcwce3.pdf; Mount: SMD/SMT; Operating Temperature Max: + 85 C; Operating Temperature Min: - 40 C; Package / Case: 0805; LCSC Part #: N/A
footprint RES_0805 (Chip Resistor, 2-Leads, Body 2.05x1.25mm, IPC Medium Density)
pins: 1, 2

## 0008051061
designator R?, comment 10 MOhm, 1/8 W
RES, size 0805, 10 MOhm, 1/8 W, 1%; Manufacturer: Vishay Dale; Manufacturer Part Number: CRCW08051M00FKEAC; Rated Power: 1/8 W; Resistance: 10 MOhm; Tolerance: +/-1%; Supplier 1 URL: N/A; Supplier 2 URL: https://www.digikey.com/en/products/detail/vishay-dale/CRCW08051M00FKEAC/7928557; Supplier 3 URL: https://www.digikey.com/en/products/detail/vishay-dale/CRCW08051M00FKEAC/7928557; Value: 10 MOhm, 1/8 W; Packaging: Tape and Reel; Supplier 1: Mouser; Supplier 1 Part Number: N/A; Supplier 2: Digi-Key; Supplier 2 Part Number: 541-4135-2-ND; Supplier 3: thegioiic; Supplier 3 Part Number: OEM; ComponentLink1Description: Datasheet; ComponentLink1URL: https://www.vishay.com/docs/28773/crcwce3.pdf; Mount: SMD/SMT; Operating Temperature Max: + 85 C; Operating Temperature Min: - 40 C; Package / Case: 0805; LCSC Part #: N/A
footprint RES_0805 (Chip Resistor, 2-Leads, Body 2.05x1.25mm, IPC Medium Density)
pins: 1, 2

## 0008051065
designator R?, comment 10 MOhm, 1/8 W
RES, size 0805, 10 MOhm, 1/8 W, 5%; Manufacturer: Vishay Dale; Manufacturer Part Number: CRCW080510M0JNEA; Rated Power: 1/8 W; Resistance: 10 MOhm; Tolerance: +/-5%; Supplier 1 URL: https://www.mouser.vn/ProductDetail/Vishay-Draloric/RCV080510M0JNEA?qs=%252BZJHVReOaHr6BtmMLn%2FzAw%3D%3D; Supplier 2 URL: https://www.digikey.com/en/products/detail/vishay-dale/CRCW080510M0JNEA/1175294; Supplier 3 URL: https://www.digikey.com/en/products/detail/vishay-dale/CRCW080510M0JNEA/1175294; Value: 10 MOhm, 1/8 W; Packaging: Tape and Reel; Supplier 1: Mouser; Supplier 1 Part Number: 71-RCV080510M0JNEA; Supplier 2: Digi-Key; Supplier 2 Part Number: 541-10MATR-ND; Supplier 3: thegioiic; Supplier 3 Part Number: OEM; ComponentLink1Description: Datasheet; ComponentLink1URL: https://www.vishay.com/docs/20035/dcrcwe3.pdf; Mount: SMD/SMT; Operating Temperature Max: + 85 C; Operating Temperature Min: - 40 C; Package / Case: 0805; LCSC Part #: N/A
footprint RES_0805 (Chip Resistor, 2-Leads, Body 2.05x1.25mm, IPC Medium Density)
pins: 1, 2

## 0008051101
designator R?, comment 11 Ohm, 1/8 W
RES, size 0805, 11 Ohm, 1/8 W, 1%; Manufacturer: Vishay Dale; Manufacturer Part Number: CRCW080511R0FKTA; Rated Power: 1/8 W; Resistance: 11 Ohm; Tolerance: +/-1%; Supplier 1 URL: https://www.mouser.vn/ProductDetail/Vishay-Dale/CRCW080511R0FKTA?qs=ZOFh%252BZEbFTDhCA9Hrh30Zw%3D%3D; Supplier 2 URL: https://www.digikey.com/en/products/detail/vishay-dale/CRCW080511R0FKEA/1175413; Supplier 3 URL: N/A; Value: 11 Ohm, 1/8 W; Packaging: Tape and Reel; Supplier 1: Mouser; Supplier 1 Part Number: 71-CRCW0805-11; Supplier 2: Digi-Key; Supplier 2 Part Number: 541-11.0CTR-ND; Supplier 3: thegioiic; Supplier 3 Part Number: OEM; ComponentLink1Description: Datasheet; ComponentLink1URL: https://www.vishay.com/docs/20035/dcrcwe3.pdf; Mount: SMD/SMT; Operating Temperature Max: + 85 C; Operating Temperature Min: - 40 C; Package / Case: 0805; LCSC Part #: N/A
footprint RES_0805 (Chip Resistor, 2-Leads, Body 2.05x1.25mm, IPC Medium Density)
pins: 1, 2

## 0008051105
designator R?, comment 11 Ohm, 1/8 W
RES, size 0805, 11 Ohm, 1/8 W, 5%; Manufacturer: Vishay Dale; Manufacturer Part Number: CRCW080511R0JNEAC; Rated Power: 1/8 W; Resistance: 11 Ohm; Tolerance: +/-5%; Supplier 1 URL: https://www.mouser.vn/ProductDetail/Vishay-Dale/CRCW080511R0JNEA?qs=RG5hTW80OZI1ijzqZ4Fwzg%3D%3D; Supplier 2 URL: https://www.digikey.com/en/products/detail/vishay-dale/CRCW080511R0JNEAC/7923816; Supplier 3 URL: https://www.thegioiic.com/dien-tro-11-ohm-0805-5-; Value: 11 Ohm, 1/8 W; Packaging: Tape and Reel; Supplier 1: Mouser; Supplier 1 Part Number: 71-CRCW080511R0JNEA; Supplier 2: Digi-Key; Supplier 2 Part Number: CRCW080511R0JNEAC-ND; Supplier 3: thegioiic; Supplier 3 Part Number: OEM; ComponentLink1Description: Datasheet; ComponentLink1URL: https://www.vishay.com/docs/28773/crcwce3.pdf; Mount: SMD/SMT; Operating Temperature Max: + 85 C; Operating Temperature Min: - 40 C; Package / Case: 0805; LCSC Part #: N/A
footprint RES_0805 (Chip Resistor, 2-Leads, Body 2.05x1.25mm, IPC Medium Density)
pins: 1, 2